# Altium schematic symbol library SCH - DIODES - Trench MOS Barrier Schottky.Schlib: 1 symbol
Pins are listed as number, name and electrical type; pins without a type are passive.

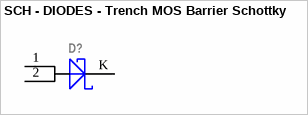
[diagram p0: symbol SCH - DIODES - Trench MOS Barrier Schottky]

## SCH - DIODES - Trench MOS Barrier Schottky
designator D?
footprint TO-277A (SMPC)
pins: 1 A, 2 A, K